# Altium schematic symbol library Modules.SchLib: 7 symbols
Pins are listed as number, name and electrical type; pins without a type are passive.

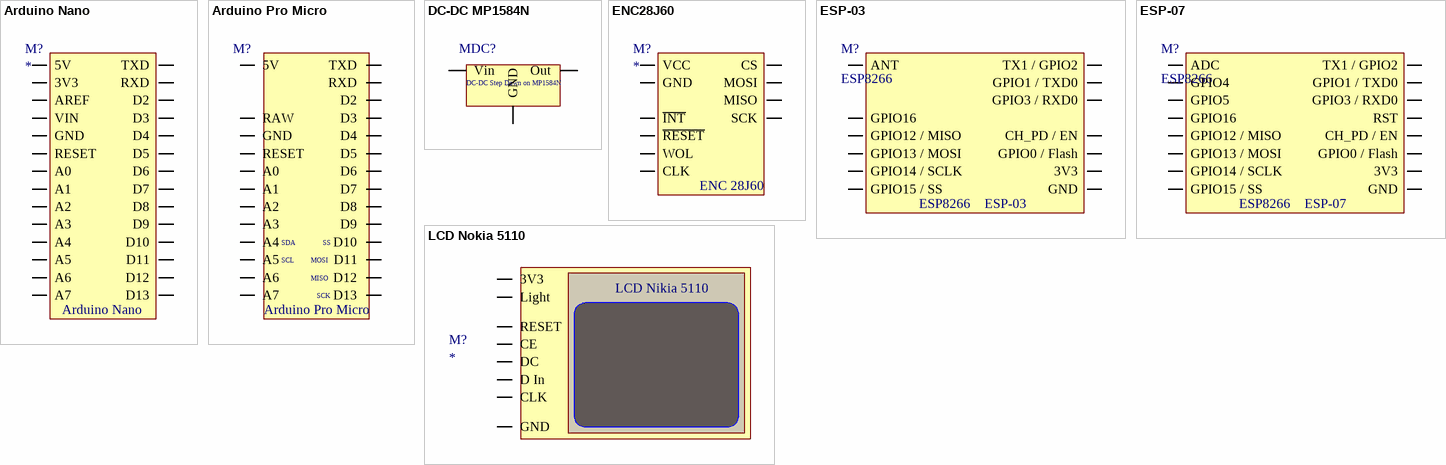
[diagram p0: symbols Arduino Nano to LCD Nokia 5110]

## Arduino Nano
designator M?
footprint Arduino Nano
pins: 3V3, 5V, A0, A1, A2, A3, A4, A5, A6, A7, AREF, D2, D3, D4, D5, D6, D7, D8, D9, D10, D11, D12, D13, GND, RESET, RXD, TXD, VIN

## Arduino Pro Micro
designator M?  (value not drawn)
footprint Arduino Pro Mini 1
footprint Arduino Pro Mini (no A4-A7))
footprint Arduino Pro Mini Low
footprint Arduino Pro Mini (no A4-A7)) Low
footprint Arduino Pro Mini Low (no A0-3)
footprint Arduino Pro Mini Low (NO A6-7,RAW)
footprint Arduino Pro Mini Low (NO A6-7,RAW, RST)
pins: 5V, A0, A1, A2, A3, A4, A5, A6, A7, D2, D3, D4, D5, D6, D7, D8, D9, D10, D11, D12, D13, GND, RAW, RESET, RXD, TXD
text: SDA; SS; SCL; MOSI; MISO; SCK

## DC-DC MP1584N
designator MDC?, comment DC-DC  (value not drawn)
DC-DC StepDown
footprint DC-DC_MP1584N
footprint DC-DC_MP1584N - spec1 (less pins)
footprint DC-DC_MP1584N (SMALL)
footprint DC-DC_MP1584N (SMALL R)
pins: GND, IN Vin, OUT Out
text: DC-DC Step Down on MP1584N

## ENC28J60
designator M?
ENC28J60 Chip Datasheet: http://lib.chipdip.ru/286/doc000286027.pdf
footprint ENC28J60
footprint ENC28J60 MiNi
pins: CLK, CS, GND, INT ~{INT}, MISO, MOSI, RESET ~{RESET}, SCK, VCC, WOL
text: ENC 28J60

## ESP-03
designator M?, comment ESP8266
PinOut Diagram: https://raw.githubusercontent.com/blahlt/notes/master/esp8266/img/esp03pinout.jpg; ESP8266 Documentation: https://static.chipdip.ru/lib/140/DOC001140960.pdf; A Lot of docs: http://ultran.ru/esp-03-0
footprint ESP-03
pins: ANT, EN CH_PD / EN, GND, GPIO0 GPIO0 / Flash, GPIO2 TX1 / GPIO2, GPIO12 GPIO12 / MISO, GPIO13 GPIO13 / MOSI, GPIO14 GPIO14 / SCLK, GPIO15 GPIO15 / SS, GPIO16, RXD0 GPIO3 / RXD0, TXD0 GPIO1 / TXD0, VCC 3V3
text: ESP8266    ESP-03

## ESP-07
designator M?, comment ESP8266
Documents: http://ultran.ru/esp-07-0; PinOut: http://mbitech.ru/images/userfiles/image/esp12e.jpg; Deep Sleep Wiring: https://pbs.twimg.com/media/CW2-673WIAAOwQy.jpg; Desc by ChipDip: https://www.chipdip.ru/product/esp-07; Module Specification: https://www.mikrocontroller.net/attachment/338570/Ai-thinker_ESP-07_WIFI_Module-EN.pdf
footprint ESP-07
pins: ADC, EN CH_PD / EN, GND, GPIO0 GPIO0 / Flash, GPIO2 TX1 / GPIO2, GPIO4, GPIO5, GPIO12 GPIO12 / MISO, GPIO13 GPIO13 / MOSI, GPIO14 GPIO14 / SCLK, GPIO15 GPIO15 / SS, GPIO16, RST, RXD0 GPIO3 / RXD0, TXD0 GPIO1 / TXD0, VCC 3V3
text: ESP8266    ESP-07

## LCD Nokia 5110
designator M?
footprint LCD Nokia 5110
pins: CE, CLK, DC, DIN D In, GND, LIGHT Light, RST RESET, VCC 3V3
text: LCD Nikia 5110